# Altium integrated library NSC Amplifier.IntLib: 1615 symbols (part 26 of 44)
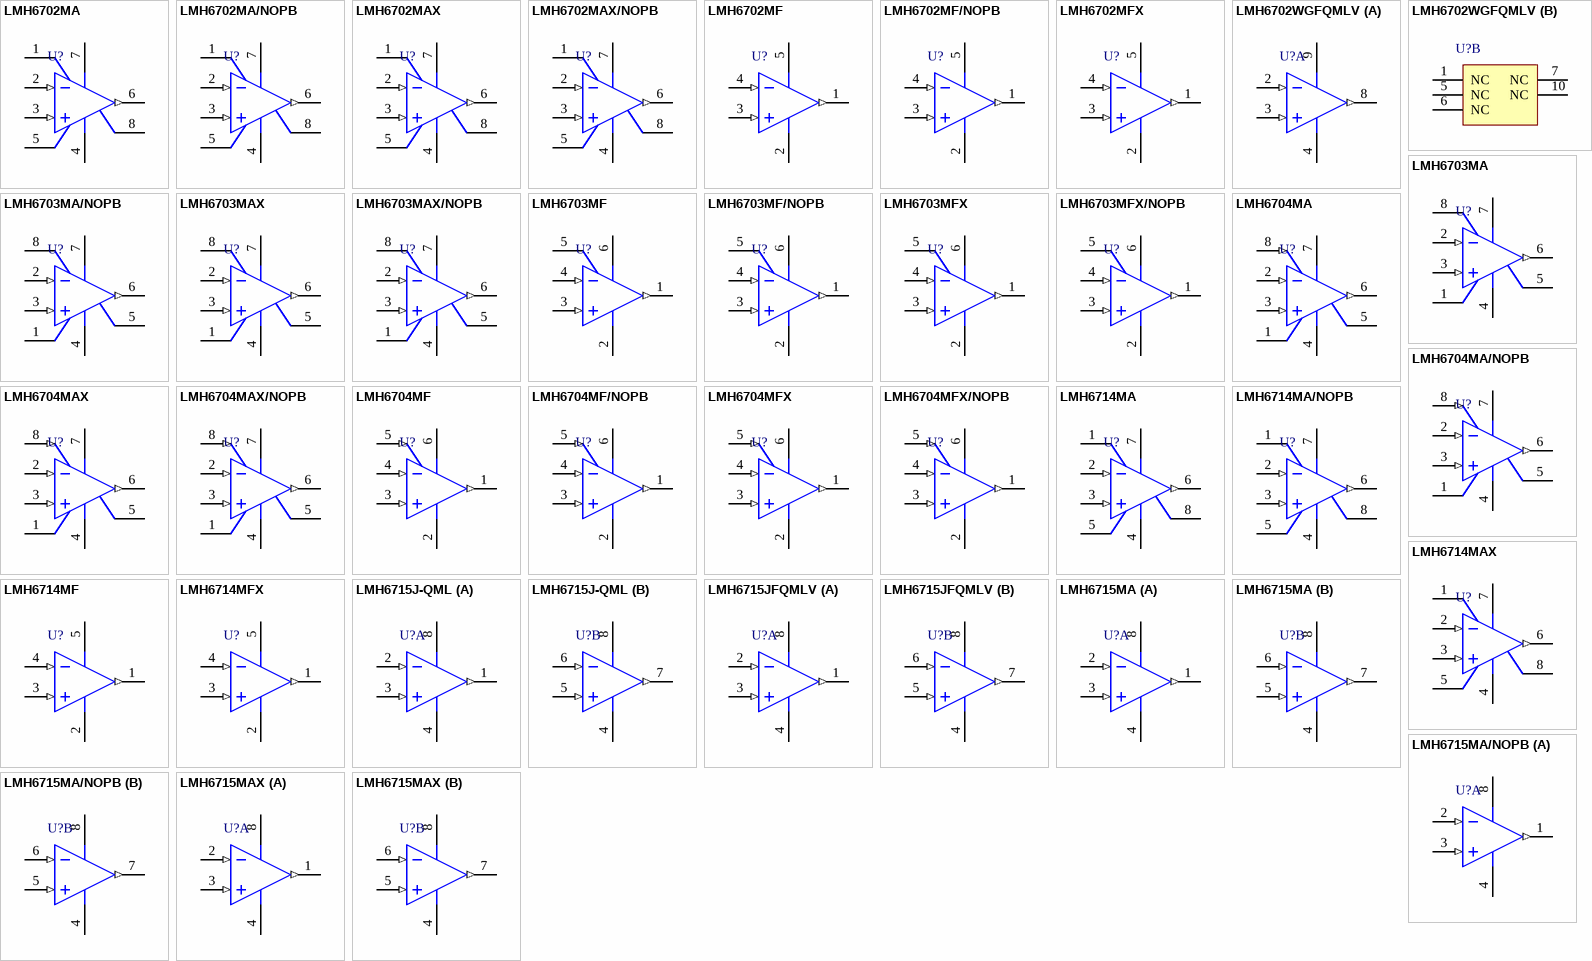
[diagram p107: symbols LMH6702MA to LMH6715MAX]

## LMH6704MA/NOPB
designator U?
650 MHz Selectable Gain Buffer with Disable, 8-pin Narrow SOIC, Pb-Free; PartNumber: LMH6704MA/NOPB; Manufacturer: National Semiconductor; PackageTopMarking: NSZXTT*LMH67*04MA; PowerWise: N; CompType: Amplifiers; Published: 1-Mar-2010; DatasheetVersion: Sep-2006; PackageVersion: revM, May-2009; PackageReference: M08A; Publisher: Altium Limited; PackageDescription: SOIC Narrow, 4.9 x 3.9 x 1.45mm, 8 Lead, 1.27mm Pitch; Supplier 1: Digi-Key; Supplier Part Number 1: LMH6704MA-ND; RoHS: Y; PinCount: 8; Code_JEDEC: MS-012-AA; Code_IPC: SOIC127P600-8; ComponentLink1Description: LMH6704 Datasheet; ComponentLink1URL: http://www.national.com/ds/LM/LMH6704.pdf; ComponentLink2Description: LMH6704 Web Page; ComponentLink2URL: http://www.national.com/pf/LM/LMH6704.html; ComponentLink3Description: M08A Package Page; ComponentLink3URL: http://www.national.com/packaging/folders/m08a.html
footprint M08A_N (SOIC, 8-Leads, Body 4.9x3.9mm, Pitch 1.27mm, IPC Medium Density)
footprint M08A_L (SOIC, 8-Leads, Body 4.9x3.9mm, Pitch 1.27mm, IPC High Density)
footprint M08A_M (SOIC, 8-Leads, Body 4.9x3.9mm, Pitch 1.27mm, IPC Low Density)
pins: 1 NC, 2 IN- (in), 3 IN+ (in), 4 VS- (power), 5 NC, 6 OUT (out), 7 VS+ (power), 8 ~{DIS} (in)

## LMH6704MAX
designator U?
650 MHz Selectable Gain Buffer with Disable, 8-pin Narrow SOIC; PartNumber: LMH6704MAX; Manufacturer: National Semiconductor; PackageTopMarking: NSZXTT*LMH67*04MA; PowerWise: N; CompType: Amplifiers; Published: 1-Mar-2010; DatasheetVersion: Sep-2006; PackageVersion: revM, May-2009; PackageReference: M08A; Publisher: Altium Limited; PackageDescription: SOIC Narrow, 4.9 x 3.9 x 1.45mm, 8 Lead, 1.27mm Pitch; RoHS: N; PinCount: 8; Code_JEDEC: MS-012-AA; Code_IPC: SOIC127P600-8; ComponentLink1Description: LMH6704 Datasheet; ComponentLink1URL: http://www.national.com/ds/LM/LMH6704.pdf; ComponentLink2Description: LMH6704 Web Page; ComponentLink2URL: http://www.national.com/pf/LM/LMH6704.html; ComponentLink3Description: M08A Package Page; ComponentLink3URL: http://www.national.com/packaging/folders/m08a.html
footprint M08A_N (SOIC, 8-Leads, Body 4.9x3.9mm, Pitch 1.27mm, IPC Medium Density)
footprint M08A_L (SOIC, 8-Leads, Body 4.9x3.9mm, Pitch 1.27mm, IPC High Density)
footprint M08A_M (SOIC, 8-Leads, Body 4.9x3.9mm, Pitch 1.27mm, IPC Low Density)
pins: 1 NC, 2 IN- (in), 3 IN+ (in), 4 VS- (power), 5 NC, 6 OUT (out), 7 VS+ (power), 8 ~{DIS} (in)

## LMH6704MAX/NOPB
designator U?
650 MHz Selectable Gain Buffer with Disable, 8-pin Narrow SOIC, Pb-Free; PartNumber: LMH6704MAX/NOPB; Manufacturer: National Semiconductor; PackageTopMarking: NSZXTT*LMH67*04MA; PowerWise: N; CompType: Amplifiers; Published: 1-Mar-2010; DatasheetVersion: Sep-2006; PackageVersion: revM, May-2009; PackageReference: M08A; Publisher: Altium Limited; PackageDescription: SOIC Narrow, 4.9 x 3.9 x 1.45mm, 8 Lead, 1.27mm Pitch; Supplier 1: Digi-Key; Supplier Part Number 1: LMH6704MAX-ND; RoHS: Y; PinCount: 8; Code_JEDEC: MS-012-AA; Code_IPC: SOIC127P600-8; ComponentLink1Description: LMH6704 Datasheet; ComponentLink1URL: http://www.national.com/ds/LM/LMH6704.pdf; ComponentLink2Description: LMH6704 Web Page; ComponentLink2URL: http://www.national.com/pf/LM/LMH6704.html; ComponentLink3Description: M08A Package Page; ComponentLink3URL: http://www.national.com/packaging/folders/m08a.html
footprint M08A_N (SOIC, 8-Leads, Body 4.9x3.9mm, Pitch 1.27mm, IPC Medium Density)
footprint M08A_L (SOIC, 8-Leads, Body 4.9x3.9mm, Pitch 1.27mm, IPC High Density)
footprint M08A_M (SOIC, 8-Leads, Body 4.9x3.9mm, Pitch 1.27mm, IPC Low Density)
pins: 1 NC, 2 IN- (in), 3 IN+ (in), 4 VS- (power), 5 NC, 6 OUT (out), 7 VS+ (power), 8 ~{DIS} (in)

## LMH6704MF
designator U?
650 MHz Selectable Gain Buffer with Disable, 6-pin SOT-23; PartNumber: LMH6704MF; Manufacturer: National Semiconductor; PackageTopMarking: B07A*XTT; PowerWise: N; CompType: Amplifiers; Published: 4-Dec-2008; DatasheetVersion: Sep-2006; PackageVersion: revC, Sep-2005; PackageReference: MF06A; Publisher: Altium Limited; PackageDescription: Molded SOT-23, .115 x .063 x .040in Body, 6 Lead, .0375in in Pitch; Supplier 1: Farnell; Supplier Part Number 1: 1008278; RoHS: N; PinCount: 6; Code_JEDEC: MO-178-AB; Code_IPC: SOT26A-6; ComponentLink1Description: LMH6704 Datasheet; ComponentLink1URL: http://www.national.com/ds/LM/LMH6704.pdf; ComponentLink2Description: LMH6704 Web Page; ComponentLink2URL: http://www.national.com/pf/LM/LMH6704.html; ComponentLink3Description: MF06A Package Page; ComponentLink3URL: http://www.national.com/packaging/folders/mf06a.html
footprint MF06A_N (SOT23, 6-Leads, Body 2.9x1.6mm, Pitch 0.95mm, Lead Span 2.8mm, IPC Medium Density)
footprint MF06A_L (SOT23, 6-Leads, Body 2.9x1.6mm, Pitch 0.95mm, Lead Span 2.8mm, IPC High Density)
footprint MF06A_M (SOT23, 6-Leads, Body 2.9x1.6mm, Pitch 0.95mm, Lead Span 2.8mm, IPC Low Density)
pins: 1 OUT (out), 2 VS- (power), 3 IN+ (in), 4 IN- (in), 5 ~{DIS} (in), 6 VS+ (power)

## LMH6704MF/NOPB
designator U?
650 MHz Selectable Gain Buffer with Disable, 6-pin SOT-23, Pb-Free; PartNumber: LMH6704MF/NOPB; Manufacturer: National Semiconductor; PackageTopMarking: B07A*XTT; PowerWise: N; CompType: Amplifiers; Published: 1-Mar-2010; DatasheetVersion: Sep-2006; PackageVersion: revC, Sep-2005; PackageReference: MF06A; Publisher: Altium Limited; PackageDescription: Molded SOT-23, .115 x .063 x .040in Body, 6 Lead, .0375in in Pitch; Supplier 1: Digi-Key; Supplier Part Number 1: LMH6704MFTR-ND; Supplier 2: Digi-Key; Supplier Part Number 2: LMH6704MFCT-ND; Supplier 3: Digi-Key; Supplier Part Number 3: LMH6704MFDKR-ND; RoHS: Y; PinCount: 6; Code_JEDEC: MO-178-AB; Code_IPC: SOT26A-6; ComponentLink1Description: LMH6704 Datasheet; ComponentLink1URL: http://www.national.com/ds/LM/LMH6704.pdf; ComponentLink2Description: LMH6704 Web Page; ComponentLink2URL: http://www.national.com/pf/LM/LMH6704.html; ComponentLink3Description: MF06A Package Page; ComponentLink3URL: http://www.national.com/packaging/folders/mf06a.html
footprint MF06A_N (SOT23, 6-Leads, Body 2.9x1.6mm, Pitch 0.95mm, Lead Span 2.8mm, IPC Medium Density)
footprint MF06A_L (SOT23, 6-Leads, Body 2.9x1.6mm, Pitch 0.95mm, Lead Span 2.8mm, IPC High Density)
footprint MF06A_M (SOT23, 6-Leads, Body 2.9x1.6mm, Pitch 0.95mm, Lead Span 2.8mm, IPC Low Density)
pins: 1 OUT (out), 2 VS- (power), 3 IN+ (in), 4 IN- (in), 5 ~{DIS} (in), 6 VS+ (power)

## LMH6704MFX
designator U?
650 MHz Selectable Gain Buffer with Disable, 6-pin SOT-23; PartNumber: LMH6704MFX; Manufacturer: National Semiconductor; PackageTopMarking: B07A*XTT; PowerWise: N; CompType: Amplifiers; Published: 1-Mar-2010; DatasheetVersion: Sep-2006; PackageVersion: revC, Sep-2005; PackageReference: MF06A; Publisher: Altium Limited; PackageDescription: Molded SOT-23, .115 x .063 x .040in Body, 6 Lead, .0375in in Pitch; RoHS: N; PinCount: 6; Code_JEDEC: MO-178-AB; Code_IPC: SOT26A-6; ComponentLink1Description: LMH6704 Datasheet; ComponentLink1URL: http://www.national.com/ds/LM/LMH6704.pdf; ComponentLink2Description: LMH6704 Web Page; ComponentLink2URL: http://www.national.com/pf/LM/LMH6704.html; ComponentLink3Description: MF06A Package Page; ComponentLink3URL: http://www.national.com/packaging/folders/mf06a.html
footprint MF06A_N (SOT23, 6-Leads, Body 2.9x1.6mm, Pitch 0.95mm, Lead Span 2.8mm, IPC Medium Density)
footprint MF06A_L (SOT23, 6-Leads, Body 2.9x1.6mm, Pitch 0.95mm, Lead Span 2.8mm, IPC High Density)
footprint MF06A_M (SOT23, 6-Leads, Body 2.9x1.6mm, Pitch 0.95mm, Lead Span 2.8mm, IPC Low Density)
pins: 1 OUT (out), 2 VS- (power), 3 IN+ (in), 4 IN- (in), 5 ~{DIS} (in), 6 VS+ (power)

## LMH6704MFX/NOPB
designator U?
650 MHz Selectable Gain Buffer with Disable, 6-pin SOT-23, Pb-Free; PartNumber: LMH6704MFX/NOPB; Manufacturer: National Semiconductor; PackageTopMarking: B07A*XTT; PowerWise: N; CompType: Amplifiers; Published: 1-Mar-2010; DatasheetVersion: Sep-2006; PackageVersion: revC, Sep-2005; PackageReference: MF06A; Publisher: Altium Limited; PackageDescription: Molded SOT-23, .115 x .063 x .040in Body, 6 Lead, .0375in in Pitch; Supplier 1: Digi-Key; Supplier Part Number 1: LMH6704MFX-ND; RoHS: Y; PinCount: 6; Code_JEDEC: MO-178-AB; Code_IPC: SOT26A-6; ComponentLink1Description: LMH6704 Datasheet; ComponentLink1URL: http://www.national.com/ds/LM/LMH6704.pdf; ComponentLink2Description: LMH6704 Web Page; ComponentLink2URL: http://www.national.com/pf/LM/LMH6704.html; ComponentLink3Description: MF06A Package Page; ComponentLink3URL: http://www.national.com/packaging/folders/mf06a.html
footprint MF06A_N (SOT23, 6-Leads, Body 2.9x1.6mm, Pitch 0.95mm, Lead Span 2.8mm, IPC Medium Density)
footprint MF06A_L (SOT23, 6-Leads, Body 2.9x1.6mm, Pitch 0.95mm, Lead Span 2.8mm, IPC High Density)
footprint MF06A_M (SOT23, 6-Leads, Body 2.9x1.6mm, Pitch 0.95mm, Lead Span 2.8mm, IPC Low Density)
pins: 1 OUT (out), 2 VS- (power), 3 IN+ (in), 4 IN- (in), 5 ~{DIS} (in), 6 VS+ (power)

## LMH6714MA
designator U?
Single Wideband Video Op Amp, 8-pin Narrow SOIC; PartNumber: LMH6714MA; Manufacturer: National Semiconductor; PackageTopMarking: NSZXTT*LMH67*14MA; PowerWise: Y; CompType: Amplifiers; Published: 4-Dec-2008; LatestRevisionDate: 13-Jan-2009; LatestRevisionNote: Sim Model Added.; DatasheetVersion: Oct-2009; PackageVersion: revM, May-2009; PackageReference: M08A; Publisher: Altium Limited; PackageDescription: SOIC Narrow, 4.9 x 3.9 x 1.45mm, 8 Lead, 1.27mm Pitch; Supplier 1: Farnell; Supplier Part Number 1: 8180857; RoHS: N; PinCount: 8; Code_JEDEC: MS-012-AA; Code_IPC: SOIC127P600-8; ComponentLink1Description: LMH6714 Datasheet; ComponentLink1URL: http://www.national.com/ds/LM/LMH6714.pdf; ComponentLink2Description: LMH6714 Web Page; ComponentLink2URL: http://www.national.com/pf/LM/LMH6714.html; ComponentLink3Description: M08A Package Page; ComponentLink3URL: http://www.national.com/packaging/folders/m08a.html
footprint M08A_N (SOIC, 8-Leads, Body 4.9x3.9mm, Pitch 1.27mm, IPC Medium Density)
footprint M08A_L (SOIC, 8-Leads, Body 4.9x3.9mm, Pitch 1.27mm, IPC High Density)
footprint M08A_M (SOIC, 8-Leads, Body 4.9x3.9mm, Pitch 1.27mm, IPC Low Density)
simulation model LMH6714 (SUBCKT)
pins: 1 NC, 2 IN- (in), 3 IN+ (in), 4 V- (power), 5 NC, 6 OUT (out), 7 V+ (power), 8 NC

## LMH6714MA/NOPB
designator U?
Single Wideband Video Op Amp, 8-pin Narrow SOIC, Pb-Free; PartNumber: LMH6714MA/NOPB; Manufacturer: National Semiconductor; PackageTopMarking: NSZXTT*LMH67*14MA; PowerWise: Y; CompType: Amplifiers; Published: 1-Mar-2010; DatasheetVersion: Oct-2009; PackageVersion: revM, May-2009; PackageReference: M08A; Publisher: Altium Limited; PackageDescription: SOIC Narrow, 4.9 x 3.9 x 1.45mm, 8 Lead, 1.27mm Pitch; Supplier 1: Digi-Key; Supplier Part Number 1: LMH6714MA-ND; Supplier 2: Farnell; Supplier Part Number 2: 1496043; RoHS: Y; PinCount: 8; Code_JEDEC: MS-012-AA; Code_IPC: SOIC127P600-8; ComponentLink1Description: LMH6714 Datasheet; ComponentLink1URL: http://www.national.com/ds/LM/LMH6714.pdf; ComponentLink2Description: LMH6714 Web Page; ComponentLink2URL: http://www.national.com/pf/LM/LMH6714.html; ComponentLink3Description: M08A Package Page; ComponentLink3URL: http://www.national.com/packaging/folders/m08a.html
footprint M08A_N (SOIC, 8-Leads, Body 4.9x3.9mm, Pitch 1.27mm, IPC Medium Density)
footprint M08A_L (SOIC, 8-Leads, Body 4.9x3.9mm, Pitch 1.27mm, IPC High Density)
footprint M08A_M (SOIC, 8-Leads, Body 4.9x3.9mm, Pitch 1.27mm, IPC Low Density)
simulation model LMH6714 (SUBCKT)
pins: 1 NC, 2 IN- (in), 3 IN+ (in), 4 V- (power), 5 NC, 6 OUT (out), 7 V+ (power), 8 NC

## LMH6714MAX
designator U?
Single Wideband Video Op Amp, 8-pin Narrow SOIC; PartNumber: LMH6714MAX; Manufacturer: National Semiconductor; PackageTopMarking: NSZXTT*LMH67*14MA; PowerWise: Y; CompType: Amplifiers; Published: 1-Mar-2010; DatasheetVersion: Oct-2009; PackageVersion: revM, May-2009; PackageReference: M08A; Publisher: Altium Limited; PackageDescription: SOIC Narrow, 4.9 x 3.9 x 1.45mm, 8 Lead, 1.27mm Pitch; RoHS: N; PinCount: 8; Code_JEDEC: MS-012-AA; Code_IPC: SOIC127P600-8; ComponentLink1Description: LMH6714 Datasheet; ComponentLink1URL: http://www.national.com/ds/LM/LMH6714.pdf; ComponentLink2Description: LMH6714 Web Page; ComponentLink2URL: http://www.national.com/pf/LM/LMH6714.html; ComponentLink3Description: M08A Package Page; ComponentLink3URL: http://www.national.com/packaging/folders/m08a.html
footprint M08A_N (SOIC, 8-Leads, Body 4.9x3.9mm, Pitch 1.27mm, IPC Medium Density)
footprint M08A_L (SOIC, 8-Leads, Body 4.9x3.9mm, Pitch 1.27mm, IPC High Density)
footprint M08A_M (SOIC, 8-Leads, Body 4.9x3.9mm, Pitch 1.27mm, IPC Low Density)
simulation model LMH6714 (SUBCKT)
pins: 1 NC, 2 IN- (in), 3 IN+ (in), 4 V- (power), 5 NC, 6 OUT (out), 7 V+ (power), 8 NC

## LMH6714MF
designator U?
Single Wideband Video Operational Amplifier, 5-pin SOT-23; PartNumber: LMH6714MF; Manufacturer: National Semiconductor; PackageTopMarking: A95A*XTT; PowerWise: Y; CompType: Amplifiers; Published: 4-Dec-2008; LatestRevisionDate: 13-Jan-2009; LatestRevisionNote: Sim Model Added.; DatasheetVersion: Oct-2009; PackageVersion: revD, Aug-2008; PackageReference: MF05A; Publisher: Altium Limited; PackageDescription: Molded SOT-23, .115 x .063 x .040 in Body, 5 Lead, .0375 in Pitch; Supplier 1: Farnell; Supplier Part Number 1: 8180865; RoHS: N; PinCount: 5; ComponentLink1Description: LMH6714 Datasheet; ComponentLink1URL: http://www.national.com/ds/LM/LMH6714.pdf; ComponentLink2Description: LMH6714 Web Page; ComponentLink2URL: http://www.national.com/pf/LM/LMH6714.html; ComponentLink3Description: MF05A Package Page; ComponentLink3URL: http://www.national.com/packaging/folders/mf05a.html
footprint MF05A_N (SOT23, 5-Leads, Body 2.9x1.6mm, Pitch 0.95mm, Lead Span 2.8mm, IPC Medium Density)
footprint MF05A_L (SOT23, 5-Leads, Body 2.9x1.6mm, Pitch 0.95mm, Lead Span 2.8mm, IPC High Density)
footprint MF05A_M (SOT23, 5-Leads, Body 2.9x1.6mm, Pitch 0.95mm, Lead Span 2.8mm, IPC Low Density)
simulation model LMH6714 (SUBCKT)
pins: 1 OUT (out), 2 V- (power), 3 IN+ (in), 4 IN- (in), 5 V+ (power)

## LMH6714MFX
designator U?
Single Wideband Video Op Amp, 5-pin SOT-23; PartNumber: LMH6714MFX; Manufacturer: National Semiconductor; PackageTopMarking: A95A*XTT; PowerWise: Y; CompType: Amplifiers; Published: 1-Mar-2010; DatasheetVersion: Oct-2009; PackageVersion: revD, Aug-2008; PackageReference: MF05A; Publisher: Altium Limited; PackageDescription: Molded SOT-23, .115 x .063 x .040 in Body, 5 Lead, .0375 in Pitch; RoHS: N; PinCount: 5; ComponentLink1Description: LMH6714 Datasheet; ComponentLink1URL: http://www.national.com/ds/LM/LMH6714.pdf; ComponentLink2Description: LMH6714 Web Page; ComponentLink2URL: http://www.national.com/pf/LM/LMH6714.html; ComponentLink3Description: MF05A Package Page; ComponentLink3URL: http://www.national.com/packaging/folders/mf05a.html
footprint MF05A_N (SOT23, 5-Leads, Body 2.9x1.6mm, Pitch 0.95mm, Lead Span 2.8mm, IPC Medium Density)
footprint MF05A_L (SOT23, 5-Leads, Body 2.9x1.6mm, Pitch 0.95mm, Lead Span 2.8mm, IPC High Density)
footprint MF05A_M (SOT23, 5-Leads, Body 2.9x1.6mm, Pitch 0.95mm, Lead Span 2.8mm, IPC Low Density)
simulation model LMH6714 (SUBCKT)
pins: 1 OUT (out), 2 V- (power), 3 IN+ (in), 4 IN- (in), 5 V+ (power)

## LMH6715J-QML
designator U?
Dual Wideband Video Op Amp, 8-pin CerDIP; PartNumber: LMH6715J-QML; Manufacturer: National Semiconductor; PackageTopMarking: NSZSSXXYYA*LMH6715J-*QML 5962-*0254701QPA Q; PowerWise: N; CompType: Amplifiers; High-Reliability: Y; Published: 4-Dec-2008; LatestRevisionDate: 13-Jan-2009; LatestRevisionNote: Sim Model Added.; DatasheetVersion: Jan-2003; PackageVersion: revM, Jul-2002; PackageReference: J08A; Publisher: Altium Limited; PackageDescription: Cerdip, .400 x .310in Body, 8 Lead, .300in Centers, .100in Pitch; RoHS: N; PinCount: 8; ComponentLink1Description: LMH6715 Datasheet; ComponentLink1URL: http://www.national.com/ds/LM/LMH6715.pdf; ComponentLink2Description: LMH6715 Web Page; ComponentLink2URL: http://www.national.com/pf/LM/LMH6715.html; ComponentLink3Description: J08A Package Page; ComponentLink3URL: http://www.national.com/packaging/folders/j08a.html
footprint J08A (DIP, 8-Leads, Row Spacing 7.62mm, Pitch 2.54mm, Body 9.78x6.73mm)
simulation model LMH6715 (SUBCKT)
pins on every part: 4 V- (power), 8 V+ (power)
part A pins: 1 OUT1 (out), 2 IN1- (in), 3 IN1+ (in)
part B pins: 5 IN2+ (in), 6 IN2- (in), 7 OUT2 (out)

## LMH6715JFQMLV
designator U?
Dual Wideband Video Op Amp, 8-pin CerDIP; PartNumber: LMH6715JFQMLV; Manufacturer: National Semiconductor; PackageTopMarking: NSZSSXXYYA*LMH6715JF*QV Q 5962F*0254701VPA; PowerWise: N; CompType: Amplifiers; High-Reliability: Y; Published: 4-Dec-2008; LatestRevisionDate: 13-Jan-2009; LatestRevisionNote: Sim Model Added.; DatasheetVersion: Jan-2003; PackageVersion: revM, Jul-2002; PackageReference: J08A; Publisher: Altium Limited; PackageDescription: Cerdip, .400 x .310in Body, 8 Lead, .300in Centers, .100in Pitch; RoHS: N; PinCount: 8; ComponentLink1Description: LMH6715 Datasheet; ComponentLink1URL: http://www.national.com/ds/LM/LMH6715.pdf; ComponentLink2Description: LMH6715 Web Page; ComponentLink2URL: http://www.national.com/pf/LM/LMH6715.html; ComponentLink3Description: J08A Package Page; ComponentLink3URL: http://www.national.com/packaging/folders/j08a.html
footprint J08A (DIP, 8-Leads, Row Spacing 7.62mm, Pitch 2.54mm, Body 9.78x6.73mm)
simulation model LMH6715 (SUBCKT)
pins on every part: 4 V- (power), 8 V+ (power)
part A pins: 1 OUT1 (out), 2 IN1- (in), 3 IN1+ (in)
part B pins: 5 IN2+ (in), 6 IN2- (in), 7 OUT2 (out)

## LMH6715MA
designator U?
Dual Wideband Video Op Amp, 8-pin Narrow SOIC; PartNumber: LMH6715MA; Manufacturer: National Semiconductor; PackageTopMarking: NSZXTT*LMH67*15MA; PowerWise: N; CompType: Amplifiers; Published: 4-Dec-2008; LatestRevisionDate: 13-Jan-2009; LatestRevisionNote: Sim Model Added.; DatasheetVersion: Jan-2003; PackageVersion: revM, May-2009; PackageReference: M08A; Publisher: Altium Limited; PackageDescription: SOIC Narrow, 4.9 x 3.9 x 1.45mm, 8 Lead, 1.27mm Pitch; Supplier 1: Farnell; Supplier Part Number 1: 4313641; RoHS: N; PinCount: 8; Code_JEDEC: MS-012-AA; Code_IPC: SOIC127P600-8; ComponentLink1Description: LMH6715 Datasheet; ComponentLink1URL: http://www.national.com/ds/LM/LMH6715.pdf; ComponentLink2Description: LMH6715 Web Page; ComponentLink2URL: http://www.national.com/pf/LM/LMH6715.html; ComponentLink3Description: M08A Package Page; ComponentLink3URL: http://www.national.com/packaging/folders/m08a.html
footprint M08A_N (SOIC, 8-Leads, Body 4.9x3.9mm, Pitch 1.27mm, IPC Medium Density)
footprint M08A_L (SOIC, 8-Leads, Body 4.9x3.9mm, Pitch 1.27mm, IPC High Density)
footprint M08A_M (SOIC, 8-Leads, Body 4.9x3.9mm, Pitch 1.27mm, IPC Low Density)
simulation model LMH6715 (SUBCKT)
pins on every part: 4 V- (power), 8 V+ (power)
part A pins: 1 OUT1 (out), 2 IN1- (in), 3 IN1+ (in)
part B pins: 5 IN2+ (in), 6 IN2- (in), 7 OUT2 (out)

## LMH6715MA/NOPB
designator U?
Dual Wideband Video Op Amp, 8-pin Narrow SOIC, Pb-Free; PartNumber: LMH6715MA/NOPB; Manufacturer: National Semiconductor; PackageTopMarking: NSZXTT*LMH67*15MA; PowerWise: N; CompType: Amplifiers; Published: 1-Mar-2010; DatasheetVersion: Jan-2003; PackageVersion: revM, May-2009; PackageReference: M08A; Publisher: Altium Limited; PackageDescription: SOIC Narrow, 4.9 x 3.9 x 1.45mm, 8 Lead, 1.27mm Pitch; Supplier 1: Digi-Key; Supplier Part Number 1: LMH6715MA-ND; Supplier 2: Farnell; Supplier Part Number 2: 1564715; RoHS: Y; PinCount: 8; Code_JEDEC: MS-012-AA; Code_IPC: SOIC127P600-8; ComponentLink1Description: LMH6715 Datasheet; ComponentLink1URL: http://www.national.com/ds/LM/LMH6715.pdf; ComponentLink2Description: LMH6715 Web Page; ComponentLink2URL: http://www.national.com/pf/LM/LMH6715.html; ComponentLink3Description: M08A Package Page; ComponentLink3URL: http://www.national.com/packaging/folders/m08a.html
footprint M08A_N (SOIC, 8-Leads, Body 4.9x3.9mm, Pitch 1.27mm, IPC Medium Density)
footprint M08A_L (SOIC, 8-Leads, Body 4.9x3.9mm, Pitch 1.27mm, IPC High Density)
footprint M08A_M (SOIC, 8-Leads, Body 4.9x3.9mm, Pitch 1.27mm, IPC Low Density)
simulation model LMH6715 (SUBCKT)
pins on every part: 4 V- (power), 8 V+ (power)
part A pins: 1 OUT1 (out), 2 IN1- (in), 3 IN1+ (in)
part B pins: 5 IN2+ (in), 6 IN2- (in), 7 OUT2 (out)

## LMH6715MAX
designator U?
Dual Wideband Video Op Amp, 8-pin Narrow SOIC; PartNumber: LMH6715MAX; Manufacturer: National Semiconductor; PackageTopMarking: NSZXTT*LMH67*15MA; PowerWise: N; CompType: Amplifiers; Published: 1-Mar-2010; DatasheetVersion: Jan-2003; PackageVersion: revM, May-2009; PackageReference: M08A; Publisher: Altium Limited; PackageDescription: SOIC Narrow, 4.9 x 3.9 x 1.45mm, 8 Lead, 1.27mm Pitch; RoHS: N; PinCount: 8; Code_JEDEC: MS-012-AA; Code_IPC: SOIC127P600-8; ComponentLink1Description: LMH6715 Datasheet; ComponentLink1URL: http://www.national.com/ds/LM/LMH6715.pdf; ComponentLink2Description: LMH6715 Web Page; ComponentLink2URL: http://www.national.com/pf/LM/LMH6715.html; ComponentLink3Description: M08A Package Page; ComponentLink3URL: http://www.national.com/packaging/folders/m08a.html
footprint M08A_N (SOIC, 8-Leads, Body 4.9x3.9mm, Pitch 1.27mm, IPC Medium Density)
footprint M08A_L (SOIC, 8-Leads, Body 4.9x3.9mm, Pitch 1.27mm, IPC High Density)
footprint M08A_M (SOIC, 8-Leads, Body 4.9x3.9mm, Pitch 1.27mm, IPC Low Density)
simulation model LMH6715 (SUBCKT)
pins on every part: 4 V- (power), 8 V+ (power)
part A pins: 1 OUT1 (out), 2 IN1- (in), 3 IN1+ (in)
part B pins: 5 IN2+ (in), 6 IN2- (in), 7 OUT2 (out)

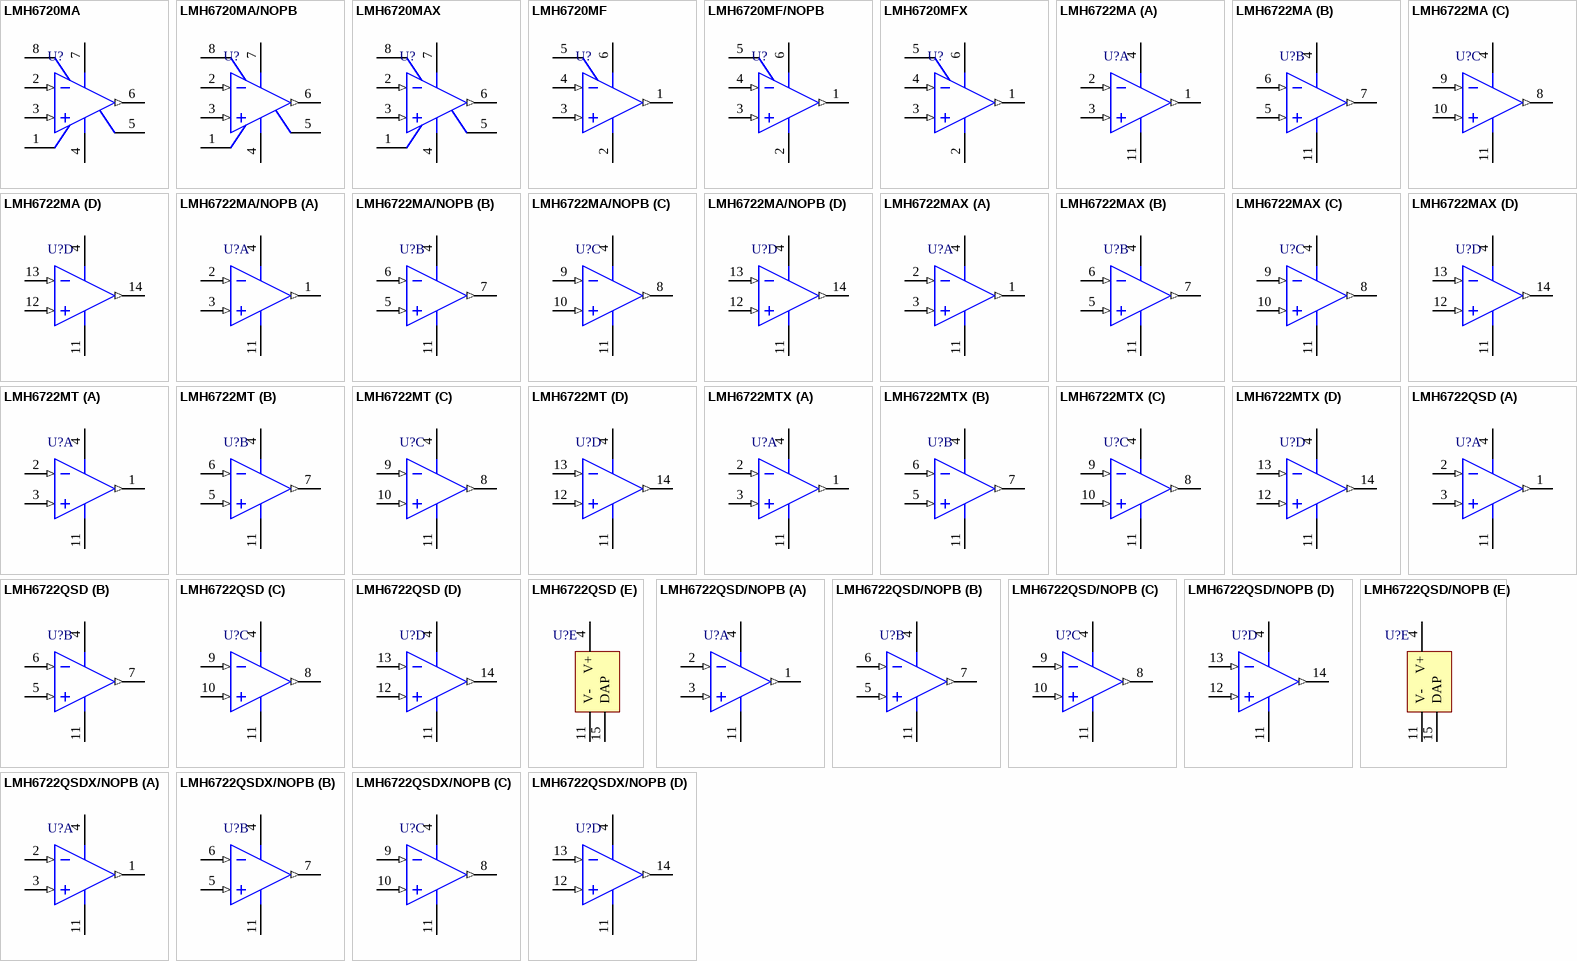
[diagram p51: symbols LMH6720MA to LMH6722QSDX/NOPB]

## LMH6720MA
designator U?
Single Wideband Video Op Amp with Shutdown, 8-pin Narrow SOIC; PartNumber: LMH6720MA; Manufacturer: National Semiconductor; PackageTopMarking: NSZXTT*LMH67*20MA; PowerWise: Y; CompType: Amplifiers; Published: 4-Dec-2008; LatestRevisionDate: 13-Jan-2009; LatestRevisionNote: Sim Model Added.; DatasheetVersion: Oct-2008; PackageVersion: revM, May-2009; PackageReference: M08A; Publisher: Altium Limited; PackageDescription: SOIC Narrow, 4.9 x 3.9 x 1.45mm, 8 Lead, 1.27mm Pitch; Supplier 1: Digi-Key; Supplier Part Number 1: LMH6720MA-ND; Supplier 2: Farnell; Supplier Part Number 2: 8180873; RoHS: N; PinCount: 8; Code_JEDEC: MS-012-AA; Code_IPC: SOIC127P600-8; ComponentLink1Description: LMH6720 Datasheet; ComponentLink1URL: http://www.national.com/ds/LM/LMH6720.pdf; ComponentLink2Description: LMH6720 Web Page; ComponentLink2URL: http://www.national.com/pf/LM/LMH6720.html; ComponentLink3Description: M08A Package Page; ComponentLink3URL: http://www.national.com/packaging/folders/m08a.html
footprint M08A_N (SOIC, 8-Leads, Body 4.9x3.9mm, Pitch 1.27mm, IPC Medium Density)
footprint M08A_L (SOIC, 8-Leads, Body 4.9x3.9mm, Pitch 1.27mm, IPC High Density)
footprint M08A_M (SOIC, 8-Leads, Body 4.9x3.9mm, Pitch 1.27mm, IPC Low Density)
simulation model LMH6720 (SUBCKT)
pins: 1 NC, 2 IN- (in), 3 IN+ (in), 4 V- (power), 5 NC, 6 OUT (out), 7 V+ (power), 8 ~{SD}

## LMH6720MA/NOPB
designator U?
Single Wideband Video Op Amp with Shutdown, 8-pin Narrow SOIC, Pb-Free; PartNumber: LMH6720MA/NOPB; Manufacturer: National Semiconductor; PackageTopMarking: NSZXTT*LMH67*20MA; PowerWise: Y; CompType: Amplifiers; Published: 1-Mar-2010; DatasheetVersion: Oct-2008; PackageVersion: revM, May-2009; PackageReference: M08A; Publisher: Altium Limited; PackageDescription: SOIC Narrow, 4.9 x 3.9 x 1.45mm, 8 Lead, 1.27mm Pitch; Supplier 1: Digi-Key; Supplier Part Number 1: LMH6720MA/NOPB-ND; Supplier 2: Farnell; Supplier Part Number 2: 1693964; RoHS: Y; PinCount: 8; Code_JEDEC: MS-012-AA; Code_IPC: SOIC127P600-8; ComponentLink1Description: LMH6720 Datasheet; ComponentLink1URL: http://www.national.com/ds/LM/LMH6720.pdf; ComponentLink2Description: LMH6720 Web Page; ComponentLink2URL: http://www.national.com/pf/LM/LMH6720.html; ComponentLink3Description: M08A Package Page; ComponentLink3URL: http://www.national.com/packaging/folders/m08a.html
footprint M08A_N (SOIC, 8-Leads, Body 4.9x3.9mm, Pitch 1.27mm, IPC Medium Density)
footprint M08A_L (SOIC, 8-Leads, Body 4.9x3.9mm, Pitch 1.27mm, IPC High Density)
footprint M08A_M (SOIC, 8-Leads, Body 4.9x3.9mm, Pitch 1.27mm, IPC Low Density)
simulation model LMH6720 (SUBCKT)
pins: 1 NC, 2 IN- (in), 3 IN+ (in), 4 V- (power), 5 NC, 6 OUT (out), 7 V+ (power), 8 ~{SD}

## LMH6720MAX
designator U?
Single Wideband Video Op Amp with Shutdown, 8-pin Narrow SOIC; PartNumber: LMH6720MAX; Manufacturer: National Semiconductor; PackageTopMarking: NSZXTT*LMH67*20MA; PowerWise: Y; CompType: Amplifiers; Published: 1-Mar-2010; DatasheetVersion: Oct-2008; PackageVersion: revM, May-2009; PackageReference: M08A; Publisher: Altium Limited; PackageDescription: SOIC Narrow, 4.9 x 3.9 x 1.45mm, 8 Lead, 1.27mm Pitch; Supplier 1: Digi-Key; Supplier Part Number 1: LMH6720MAXTR-ND; Supplier 2: Digi-Key; Supplier Part Number 2: LMH6720MAXCT-ND; RoHS: N; PinCount: 8; Code_JEDEC: MS-012-AA; Code_IPC: SOIC127P600-8; ComponentLink1Description: LMH6720 Datasheet; ComponentLink1URL: http://www.national.com/ds/LM/LMH6720.pdf; ComponentLink2Description: LMH6720 Web Page; ComponentLink2URL: http://www.national.com/pf/LM/LMH6720.html; ComponentLink3Description: M08A Package Page; ComponentLink3URL: http://www.national.com/packaging/folders/m08a.html
footprint M08A_N (SOIC, 8-Leads, Body 4.9x3.9mm, Pitch 1.27mm, IPC Medium Density)
footprint M08A_L (SOIC, 8-Leads, Body 4.9x3.9mm, Pitch 1.27mm, IPC High Density)
footprint M08A_M (SOIC, 8-Leads, Body 4.9x3.9mm, Pitch 1.27mm, IPC Low Density)
simulation model LMH6720 (SUBCKT)
pins: 1 NC, 2 IN- (in), 3 IN+ (in), 4 V- (power), 5 NC, 6 OUT (out), 7 V+ (power), 8 ~{SD}

## LMH6720MF
designator U?
Single Wideband Video Op Amp with Shutdown, 6-pin SOT-23; PartNumber: LMH6720MF; Manufacturer: National Semiconductor; PackageTopMarking: A96A*XTT; PowerWise: Y; CompType: Amplifiers; Published: 4-Dec-2008; LatestRevisionDate: 13-Jan-2009; LatestRevisionNote: Sim Model Added.; DatasheetVersion: Oct-2008; PackageVersion: revC, Sep-2005; PackageReference: MF06A; Publisher: Altium Limited; PackageDescription: Molded SOT-23, .115 x .063 x .040in Body, 6 Lead, .0375in in Pitch; Supplier 1: Farnell; Supplier Part Number 1: 8180881; RoHS: N; PinCount: 6; Code_JEDEC: MO-178-AB; Code_IPC: SOT26A-6; ComponentLink1Description: LMH6720 Datasheet; ComponentLink1URL: http://www.national.com/ds/LM/LMH6720.pdf; ComponentLink2Description: LMH6720 Web Page; ComponentLink2URL: http://www.national.com/pf/LM/LMH6720.html; ComponentLink3Description: MF06A Package Page; ComponentLink3URL: http://www.national.com/packaging/folders/mf06a.html
footprint MF06A_N (SOT23, 6-Leads, Body 2.9x1.6mm, Pitch 0.95mm, Lead Span 2.8mm, IPC Medium Density)
footprint MF06A_L (SOT23, 6-Leads, Body 2.9x1.6mm, Pitch 0.95mm, Lead Span 2.8mm, IPC High Density)
footprint MF06A_M (SOT23, 6-Leads, Body 2.9x1.6mm, Pitch 0.95mm, Lead Span 2.8mm, IPC Low Density)
simulation model LMH6720 (SUBCKT)
pins: 1 OUT (out), 2 V- (power), 3 IN+ (in), 4 IN- (in), 5 ~{SD}, 6 V+ (power)

## LMH6720MF/NOPB
designator U?
Single Wideband Video Op Amp with Shutdown, 6-pin SOT-23, Pb-Free; PartNumber: LMH6720MF/NOPB; Manufacturer: National Semiconductor; PackageTopMarking: A96A*XTT; PowerWise: Y; CompType: Amplifiers; Published: 1-Mar-2010; DatasheetVersion: Oct-2008; PackageVersion: revC, Sep-2005; PackageReference: MF06A; Publisher: Altium Limited; PackageDescription: Molded SOT-23, .115 x .063 x .040in Body, 6 Lead, .0375in in Pitch; Supplier 1: Digi-Key; Supplier Part Number 1: LMH6720MFTR-ND; Supplier 2: Digi-Key; Supplier Part Number 2: LMH6720MFCT-ND; Supplier 3: Digi-Key; Supplier Part Number 3: LMH6720MFDKR-ND; Supplier 4: Farnell; Supplier Part Number 4: 1559334; RoHS: Y; PinCount: 6; Code_JEDEC: MO-178-AB; Code_IPC: SOT26A-6; ComponentLink1Description: LMH6720 Datasheet; ComponentLink1URL: http://www.national.com/ds/LM/LMH6720.pdf; ComponentLink2Description: LMH6720 Web Page; ComponentLink2URL: http://www.national.com/pf/LM/LMH6720.html; ComponentLink3Description: MF06A Package Page; ComponentLink3URL: http://www.national.com/packaging/folders/mf06a.html
footprint MF06A_N (SOT23, 6-Leads, Body 2.9x1.6mm, Pitch 0.95mm, Lead Span 2.8mm, IPC Medium Density)
footprint MF06A_L (SOT23, 6-Leads, Body 2.9x1.6mm, Pitch 0.95mm, Lead Span 2.8mm, IPC High Density)
footprint MF06A_M (SOT23, 6-Leads, Body 2.9x1.6mm, Pitch 0.95mm, Lead Span 2.8mm, IPC Low Density)
simulation model LMH6720 (SUBCKT)
pins: 1 OUT (out), 2 V- (power), 3 IN+ (in), 4 IN- (in), 5 ~{SD}, 6 V+ (power)

## LMH6720MFX
designator U?
Single Wideband Video Op Amp with Shutdown, 6-pin SOT-23; PartNumber: LMH6720MFX; Manufacturer: National Semiconductor; PackageTopMarking: A96A*XTT; PowerWise: Y; CompType: Amplifiers; Published: 1-Mar-2010; DatasheetVersion: Oct-2008; PackageVersion: revC, Sep-2005; PackageReference: MF06A; Publisher: Altium Limited; PackageDescription: Molded SOT-23, .115 x .063 x .040in Body, 6 Lead, .0375in in Pitch; RoHS: N; PinCount: 6; Code_JEDEC: MO-178-AB; Code_IPC: SOT26A-6; ComponentLink1Description: LMH6720 Datasheet; ComponentLink1URL: http://www.national.com/ds/LM/LMH6720.pdf; ComponentLink2Description: LMH6720 Web Page; ComponentLink2URL: http://www.national.com/pf/LM/LMH6720.html; ComponentLink3Description: MF06A Package Page; ComponentLink3URL: http://www.national.com/packaging/folders/mf06a.html
footprint MF06A_N (SOT23, 6-Leads, Body 2.9x1.6mm, Pitch 0.95mm, Lead Span 2.8mm, IPC Medium Density)
footprint MF06A_L (SOT23, 6-Leads, Body 2.9x1.6mm, Pitch 0.95mm, Lead Span 2.8mm, IPC High Density)
footprint MF06A_M (SOT23, 6-Leads, Body 2.9x1.6mm, Pitch 0.95mm, Lead Span 2.8mm, IPC Low Density)
simulation model LMH6720 (SUBCKT)
pins: 1 OUT (out), 2 V- (power), 3 IN+ (in), 4 IN- (in), 5 ~{SD}, 6 V+ (power)

## LMH6722MA
designator U?
Quad Wideband Video Op Amp, 14-pin Narrow SOIC; PartNumber: LMH6722MA; Manufacturer: National Semiconductor; PackageTopMarking: NSUZXYTTE#*LMH67*22MA; PowerWise: Y; CompType: Amplifiers; Published: 4-Dec-2008; LatestRevisionDate: 13-Jan-2009; LatestRevisionNote: Sim Model Added.; DatasheetVersion: Oct-2008; PackageVersion: revJ, Jan-1996; PackageReference: M14A; Publisher: Altium Limited; PackageDescription: Molded Package S.O., .150in Wide, 14 Lead; Supplier 1: Farnell; Supplier Part Number 1: 8180890; RoHS: N; PinCount: 14; Code_JEDEC: MS-012AB; Code_IPC: SOIC127P600-14; ComponentLink1Description: LMH6722 Datasheet; ComponentLink1URL: http://www.national.com/ds/LM/LMH6722.pdf; ComponentLink2Description: LMH6722 Web Page; ComponentLink2URL: http://www.national.com/pf/LM/LMH6722.html; ComponentLink3Description: M14A Package Page; ComponentLink3URL: http://www.national.com/packaging/folders/m14a.html
footprint M14A_N (SOIC, 14-Leads, Body 8.6x3.9mm, Pitch 1.27mm, IPC Medium Density)
footprint M14A_L (SOIC, 14-Leads, Body 8.6x3.9mm, Pitch 1.27mm, IPC High Density)
footprint M14A_M (SOIC, 14-Leads, Body 8.6x3.9mm, Pitch 1.27mm, IPC Low Density)
simulation model LMH6722 (SUBCKT)
pins on every part: 4 V+ (power), 11 V- (power)
part A pins: 1 OUTA (out), 2 INA- (in), 3 INA+ (in)
part B pins: 5 INB+ (in), 6 INB- (in), 7 OUTB (out)
part C pins: 8 OUTC (out), 9 INC- (in), 10 INC+ (in)
part D pins: 12 IND+ (in), 13 IND- (in), 14 OUTD (out)

## LMH6722MA/NOPB
designator U?
Quad Wideband Video Op Amp, 14-pin Narrow SOIC, Pb-Free; PartNumber: LMH6722MA/NOPB; Manufacturer: National Semiconductor; PackageTopMarking: NSUZXYTTE#*LMH67*22MA; PowerWise: Y; CompType: Amplifiers; Published: 1-Mar-2010; DatasheetVersion: Oct-2008; PackageVersion: revJ, Jan-1996; PackageReference: M14A; Publisher: Altium Limited; PackageDescription: Molded Package S.O., .150in Wide, 14 Lead; Supplier 1: Digi-Key; Supplier Part Number 1: LMH6722MA-ND; Supplier 2: Farnell; Supplier Part Number 2: 1496044; RoHS: Y; PinCount: 14; Code_JEDEC: MS-012AB; Code_IPC: SOIC127P600-14; ComponentLink1Description: LMH6722 Datasheet; ComponentLink1URL: http://www.national.com/ds/LM/LMH6722.pdf; ComponentLink2Description: LMH6722 Web Page; ComponentLink2URL: http://www.national.com/pf/LM/LMH6722.html; ComponentLink3Description: M14A Package Page; ComponentLink3URL: http://www.national.com/packaging/folders/m14a.html
footprint M14A_N (SOIC, 14-Leads, Body 8.6x3.9mm, Pitch 1.27mm, IPC Medium Density)
footprint M14A_L (SOIC, 14-Leads, Body 8.6x3.9mm, Pitch 1.27mm, IPC High Density)
footprint M14A_M (SOIC, 14-Leads, Body 8.6x3.9mm, Pitch 1.27mm, IPC Low Density)
simulation model LMH6722 (SUBCKT)
pins on every part: 4 V+ (power), 11 V- (power)
part A pins: 1 OUTA (out), 2 INA- (in), 3 INA+ (in)
part B pins: 5 INB+ (in), 6 INB- (in), 7 OUTB (out)
part C pins: 8 OUTC (out), 9 INC- (in), 10 INC+ (in)
part D pins: 12 IND+ (in), 13 IND- (in), 14 OUTD (out)

## LMH6722MAX
designator U?
Quad Wideband Video Op Amp, 14-pin Narrow SOIC; PartNumber: LMH6722MAX; Manufacturer: National Semiconductor; PackageTopMarking: NSUZXYTTE#*LMH67*22MA; PowerWise: Y; CompType: Amplifiers; Published: 1-Mar-2010; DatasheetVersion: Oct-2008; PackageVersion: revJ, Jan-1996; PackageReference: M14A; Publisher: Altium Limited; PackageDescription: Molded Package S.O., .150in Wide, 14 Lead; RoHS: N; PinCount: 14; Code_JEDEC: MS-012AB; Code_IPC: SOIC127P600-14; ComponentLink1Description: LMH6722 Datasheet; ComponentLink1URL: http://www.national.com/ds/LM/LMH6722.pdf; ComponentLink2Description: LMH6722 Web Page; ComponentLink2URL: http://www.national.com/pf/LM/LMH6722.html; ComponentLink3Description: M14A Package Page; ComponentLink3URL: http://www.national.com/packaging/folders/m14a.html
footprint M14A_N (SOIC, 14-Leads, Body 8.6x3.9mm, Pitch 1.27mm, IPC Medium Density)
footprint M14A_L (SOIC, 14-Leads, Body 8.6x3.9mm, Pitch 1.27mm, IPC High Density)
footprint M14A_M (SOIC, 14-Leads, Body 8.6x3.9mm, Pitch 1.27mm, IPC Low Density)
simulation model LMH6722 (SUBCKT)
pins on every part: 4 V+ (power), 11 V- (power)
part A pins: 1 OUTA (out), 2 INA- (in), 3 INA+ (in)
part B pins: 5 INB+ (in), 6 INB- (in), 7 OUTB (out)
part C pins: 8 OUTC (out), 9 INC- (in), 10 INC+ (in)
part D pins: 12 IND+ (in), 13 IND- (in), 14 OUTD (out)

## LMH6722MT
designator U?
Quad Wideband Video Op Amp, 14-pin TSSOP; PartNumber: LMH6722MT; Manufacturer: National Semiconductor; PackageTopMarking: NSUZXYTT*LMH67*22MT; PowerWise: Y; CompType: Amplifiers; Published: 4-Dec-2008; LatestRevisionDate: 13-Jan-2009; LatestRevisionNote: Sim Model Added.; DatasheetVersion: Oct-2008; PackageVersion: revD, Jun-2003; PackageReference: MTC14; Publisher: Altium Limited; PackageDescription: Molded TSSOP, JEDEC, 5 x 4.4 x 0.9mm Body, 14 Lead, 0.65mm Pitch; Supplier 1: Farnell; Supplier Part Number 1: 1286952; RoHS: N; PinCount: 14; Code_JEDEC: MO-153-AB-1; ComponentLink1Description: LMH6722 Datasheet; ComponentLink1URL: http://www.national.com/ds/LM/LMH6722.pdf; ComponentLink2Description: LMH6722 Web Page; ComponentLink2URL: http://www.national.com/pf/LM/LMH6722.html; ComponentLink3Description: MTC14 Package Page; ComponentLink3URL: http://www.national.com/packaging/folders/mtc14.html
footprint MTC14_N (TSOP, 14-Leads, Body 5x4.4mm, Pitch 0.65mm, IPC Medium Density)
footprint MTC14_L (TSOP, 14-Leads, Body 5x4.4mm, Pitch 0.65mm, IPC High Density)
footprint MTC14_M (TSOP, 14-Leads, Body 5x4.4mm, Pitch 0.65mm, IPC Low Density)
simulation model LMH6722 (SUBCKT)
pins on every part: 4 V+ (power), 11 V- (power)
part A pins: 1 OUTA (out), 2 INA- (in), 3 INA+ (in)
part B pins: 5 INB+ (in), 6 INB- (in), 7 OUTB (out)
part C pins: 8 OUTC (out), 9 INC- (in), 10 INC+ (in)
part D pins: 12 IND+ (in), 13 IND- (in), 14 OUTD (out)

## LMH6722MTX
designator U?
Quad Wideband Video Op Amp, 14-pin TSSOP; PartNumber: LMH6722MTX; Manufacturer: National Semiconductor; PackageTopMarking: NSUZXYTT*LMH67*22MT; PowerWise: Y; CompType: Amplifiers; Published: 1-Mar-2010; DatasheetVersion: Oct-2008; PackageVersion: revD, Jun-2003; PackageReference: MTC14; Publisher: Altium Limited; PackageDescription: Molded TSSOP, JEDEC, 5 x 4.4 x 0.9mm Body, 14 Lead, 0.65mm Pitch; RoHS: N; PinCount: 14; Code_JEDEC: MO-153-AB-1; ComponentLink1Description: LMH6722 Datasheet; ComponentLink1URL: http://www.national.com/ds/LM/LMH6722.pdf; ComponentLink2Description: LMH6722 Web Page; ComponentLink2URL: http://www.national.com/pf/LM/LMH6722.html; ComponentLink3Description: MTC14 Package Page; ComponentLink3URL: http://www.national.com/packaging/folders/mtc14.html
footprint MTC14_N (TSOP, 14-Leads, Body 5x4.4mm, Pitch 0.65mm, IPC Medium Density)
footprint MTC14_L (TSOP, 14-Leads, Body 5x4.4mm, Pitch 0.65mm, IPC High Density)
footprint MTC14_M (TSOP, 14-Leads, Body 5x4.4mm, Pitch 0.65mm, IPC Low Density)
simulation model LMH6722 (SUBCKT)
pins on every part: 4 V+ (power), 11 V- (power)
part A pins: 1 OUTA (out), 2 INA- (in), 3 INA+ (in)
part B pins: 5 INB+ (in), 6 INB- (in), 7 OUTB (out)
part C pins: 8 OUTC (out), 9 INC- (in), 10 INC+ (in)
part D pins: 12 IND+ (in), 13 IND- (in), 14 OUTD (out)

## LMH6722QSD
designator U?
Quad Wideband Video Op Amp, 14-pin LLP; PartNumber: LMH6722QSD; Manufacturer: National Semiconductor; PackageTopMarking: ZXYTT*L6722Q; PowerWise: N; CompType: Amplifiers; Published: 4-Dec-2008; DatasheetVersion: Oct-2008; PackageVersion: revA, Jun-2003; PackageReference: SDA14A; Publisher: Altium Limited; PackageDescription: LLP, Plastic, Dual, 4 x 3 x 0.8mm Body, 14 Lead, 0.5mm Pitch, No Pullback; RoHS: Y; PinCount: 14; ComponentLink1Description: LMH6722Q Datasheet; ComponentLink1URL: http://www.national.com/ds/LM/LMH6722.pdf; ComponentLink2Description: LMH6722Q Web Page; ComponentLink2URL: http://www.national.com/pf/LM/LMH6722Q.html; ComponentLink3Description: SDA14A Package Page; ComponentLink3URL: http://www.national.com/packaging/folders/sda14a.html
footprint SDA14A (SON, 14-Leads, Body 4x3mm, Pitch 0.5mm, NSC Recommended)
pins on every part: 4 V+ (power), 11 V- (power)
part A pins: 1 OUTA (out), 2 INA- (in), 3 INA+ (in)
part B pins: 5 INB+ (in), 6 INB- (in), 7 OUTB (out)
part C pins: 8 OUTC (out), 9 INC- (in), 10 INC+ (in)
part D pins: 12 IND+ (in), 13 IND- (in), 14 OUTD (out)
part E pins: 15 DAP

## LMH6722QSD/NOPB
designator U?
Quad Wideband Video Op Amp, 14-pin LLP, Pb-Free; PartNumber: LMH6722QSD/NOPB; Manufacturer: National Semiconductor; PowerWise: Y; CompType: Amplifiers; Published: 1-Mar-2010; DatasheetVersion: Oct-2008; PackageVersion: revA, Jun-2003; PackageReference: SDA14A; Publisher: Altium Limited; PackageDescription: LLP, Plastic, Dual, 4 x 3 x 0.8mm Body, 14 Lead, 0.5mm Pitch, No Pullback; Supplier 1: Digi-Key; Supplier Part Number 1: LMH6722QSDTR-ND; Supplier 2: Digi-Key; Supplier Part Number 2: LMH6722QSDCT-ND; Supplier 3: Digi-Key; Supplier Part Number 3: LMH6722QSDDKR-ND; RoHS: Y; PinCount: 14; ComponentLink1Description: LMH6722 Datasheet; ComponentLink1URL: http://www.national.com/ds/LM/LMH6722.pdf; ComponentLink2Description: LMH6722 Web Page; ComponentLink2URL: http://www.national.com/pf/LM/LMH6722.html; ComponentLink3Description: SDA14A Package Page; ComponentLink3URL: http://www.national.com/packaging/folders/sda14a.html
footprint SDA14A (SON, 14-Leads, Body 4x3mm, Pitch 0.5mm, NSC Recommended)
simulation model LMH6722 (SUBCKT)
pins on every part: 4 V+ (power), 11 V- (power)
part A pins: 1 OUTA (out), 2 INA- (in), 3 INA+ (in)
part B pins: 5 INB+ (in), 6 INB- (in), 7 OUTB (out)
part C pins: 8 OUTC (out), 9 INC- (in), 10 INC+ (in)
part D pins: 12 IND+ (in), 13 IND- (in), 14 OUTD (out)
part E pins: 15 DAP

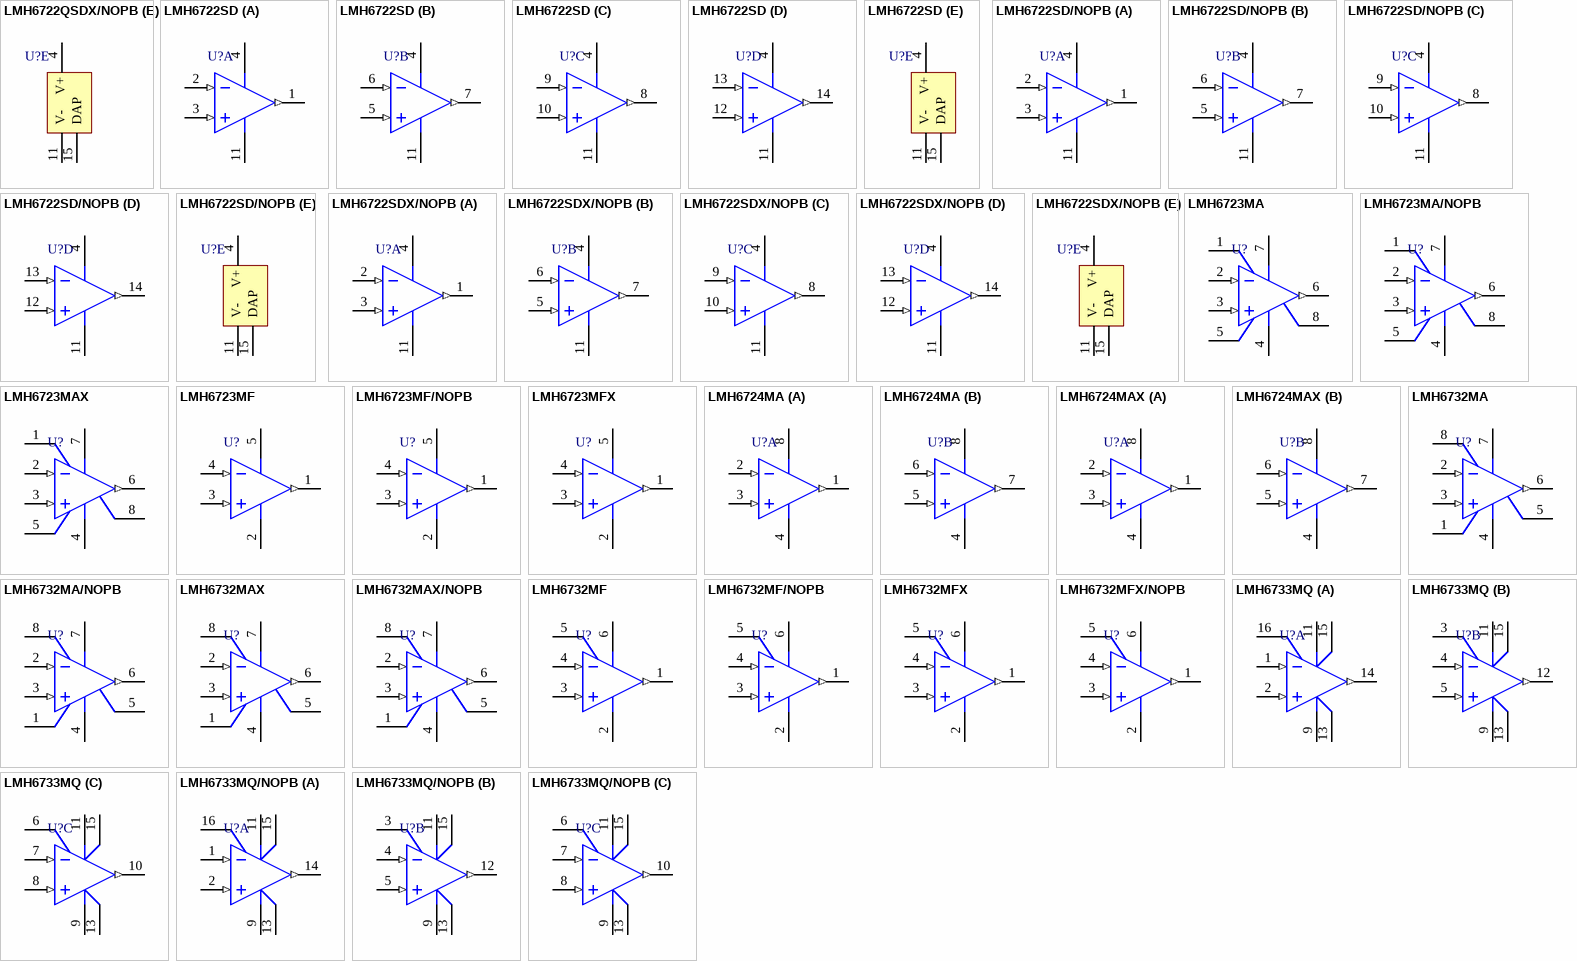
[diagram p52: symbols LMH6722QSDX/NOPB to LMH6733MQ/NOPB]

## LMH6722QSDX/NOPB
designator U?
Quad Wideband Video Op Amp, 14-pin LLP, Pb-Free; PartNumber: LMH6722QSDX/NOPB; Manufacturer: National Semiconductor; PowerWise: Y; CompType: Amplifiers; Published: 1-Mar-2010; DatasheetVersion: Oct-2008; PackageVersion: revA, Jun-2003; PackageReference: SDA14A; Publisher: Altium Limited; PackageDescription: LLP, Plastic, Dual, 4 x 3 x 0.8mm Body, 14 Lead, 0.5mm Pitch, No Pullback; Supplier 1: Digi-Key; Supplier Part Number 1: LMH6722QSDX-ND; RoHS: Y; PinCount: 14; ComponentLink1Description: LMH6722 Datasheet; ComponentLink1URL: http://www.national.com/ds/LM/LMH6722.pdf; ComponentLink2Description: LMH6722 Web Page; ComponentLink2URL: http://www.national.com/pf/LM/LMH6722.html; ComponentLink3Description: SDA14A Package Page; ComponentLink3URL: http://www.national.com/packaging/folders/sda14a.html
footprint SDA14A (SON, 14-Leads, Body 4x3mm, Pitch 0.5mm, NSC Recommended)
simulation model LMH6722 (SUBCKT)
pins on every part: 4 V+ (power), 11 V- (power)
part A pins: 1 OUTA (out), 2 INA- (in), 3 INA+ (in)
part B pins: 5 INB+ (in), 6 INB- (in), 7 OUTB (out)
part C pins: 8 OUTC (out), 9 INC- (in), 10 INC+ (in)
part D pins: 12 IND+ (in), 13 IND- (in), 14 OUTD (out)
part E pins: 15 DAP

## LMH6722SD
designator U?
Quad Wideband Video Op Amp, 14-pin LLP; PartNumber: LMH6722SD; Manufacturer: National Semiconductor; PackageTopMarking: ZXYTT*L6722; PowerWise: N; CompType: Amplifiers; Published: 4-Dec-2008; DatasheetVersion: Oct-2008; PackageVersion: revA, Jun-2003; PackageReference: SDA14A; Publisher: Altium Limited; PackageDescription: LLP, Plastic, Dual, 4 x 3 x 0.8mm Body, 14 Lead, 0.5mm Pitch, No Pullback; RoHS: Y; PinCount: 14; ComponentLink1Description: LMH6722 Datasheet; ComponentLink1URL: http://www.national.com/ds/LM/LMH6722.pdf; ComponentLink2Description: LMH6722 Web Page; ComponentLink2URL: http://www.national.com/pf/LM/LMH6722.html; ComponentLink3Description: SDA14A Package Page; ComponentLink3URL: http://www.national.com/packaging/folders/sda14a.html
footprint SDA14A (SON, 14-Leads, Body 4x3mm, Pitch 0.5mm, NSC Recommended)
pins on every part: 4 V+ (power), 11 V- (power)
part A pins: 1 OUTA (out), 2 INA- (in), 3 INA+ (in)
part B pins: 5 INB+ (in), 6 INB- (in), 7 OUTB (out)
part C pins: 8 OUTC (out), 9 INC- (in), 10 INC+ (in)
part D pins: 12 IND+ (in), 13 IND- (in), 14 OUTD (out)
part E pins: 15 DAP

## LMH6722SD/NOPB
designator U?
Quad Wideband Video Op Amp, 14-pin LLP, Pb-Free; PartNumber: LMH6722SD/NOPB; Manufacturer: National Semiconductor; PowerWise: Y; CompType: Amplifiers; Published: 1-Mar-2010; DatasheetVersion: Oct-2008; PackageVersion: revA, Jun-2003; PackageReference: SDA14A; Publisher: Altium Limited; PackageDescription: LLP, Plastic, Dual, 4 x 3 x 0.8mm Body, 14 Lead, 0.5mm Pitch, No Pullback; Supplier 1: Digi-Key; Supplier Part Number 1: LMH6722SDTR-ND; Supplier 2: Digi-Key; Supplier Part Number 2: LMH6722SDCT-ND; Supplier 3: Digi-Key; Supplier Part Number 3: LMH6722SDDKR-ND; RoHS: Y; PinCount: 14; ComponentLink1Description: LMH6722 Datasheet; ComponentLink1URL: http://www.national.com/ds/LM/LMH6722.pdf; ComponentLink2Description: LMH6722 Web Page; ComponentLink2URL: http://www.national.com/pf/LM/LMH6722.html; ComponentLink3Description: SDA14A Package Page; ComponentLink3URL: http://www.national.com/packaging/folders/sda14a.html
footprint SDA14A (SON, 14-Leads, Body 4x3mm, Pitch 0.5mm, NSC Recommended)
simulation model LMH6722 (SUBCKT)
pins on every part: 4 V+ (power), 11 V- (power)
part A pins: 1 OUTA (out), 2 INA- (in), 3 INA+ (in)
part B pins: 5 INB+ (in), 6 INB- (in), 7 OUTB (out)
part C pins: 8 OUTC (out), 9 INC- (in), 10 INC+ (in)
part D pins: 12 IND+ (in), 13 IND- (in), 14 OUTD (out)
part E pins: 15 DAP

## LMH6722SDX/NOPB
designator U?
Quad Wideband Video Op Amp, 14-pin LLP, Pb-Free; PartNumber: LMH6722SDX/NOPB; Manufacturer: National Semiconductor; PowerWise: Y; CompType: Amplifiers; Published: 1-Mar-2010; DatasheetVersion: Oct-2008; PackageVersion: revA, Jun-2003; PackageReference: SDA14A; Publisher: Altium Limited; PackageDescription: LLP, Plastic, Dual, 4 x 3 x 0.8mm Body, 14 Lead, 0.5mm Pitch, No Pullback; Supplier 1: Digi-Key; Supplier Part Number 1: LMH6722SDX-ND; RoHS: Y; PinCount: 14; ComponentLink1Description: LMH6722 Datasheet; ComponentLink1URL: http://www.national.com/ds/LM/LMH6722.pdf; ComponentLink2Description: LMH6722 Web Page; ComponentLink2URL: http://www.national.com/pf/LM/LMH6722.html; ComponentLink3Description: SDA14A Package Page; ComponentLink3URL: http://www.national.com/packaging/folders/sda14a.html
footprint SDA14A (SON, 14-Leads, Body 4x3mm, Pitch 0.5mm, NSC Recommended)
simulation model LMH6722 (SUBCKT)
pins on every part: 4 V+ (power), 11 V- (power)
part A pins: 1 OUTA (out), 2 INA- (in), 3 INA+ (in)
part B pins: 5 INB+ (in), 6 INB- (in), 7 OUTB (out)
part C pins: 8 OUTC (out), 9 INC- (in), 10 INC+ (in)
part D pins: 12 IND+ (in), 13 IND- (in), 14 OUTD (out)
part E pins: 15 DAP

## LMH6723MA
designator U?
Single/Quad 370 MHz 1 mA Current Feedback Op Amp, 8-pin Narrow SOIC; PartNumber: LMH6723MA; Manufacturer: National Semiconductor; PackageTopMarking: NSZXTT*LMH67*23MA; PowerWise: Y; CompType: Amplifiers; Published: 4-Dec-2008; LatestRevisionDate: 13-Jan-2009; LatestRevisionNote: Sim Model Added.; DatasheetVersion: Aug-2005; PackageVersion: revM, May-2009; PackageReference: M08A; Publisher: Altium Limited; PackageDescription: SOIC Narrow, 4.9 x 3.9 x 1.45mm, 8 Lead, 1.27mm Pitch; Supplier 1: Farnell; Supplier Part Number 1: 8180903; RoHS: N; PinCount: 8; Code_JEDEC: MS-012-AA; Code_IPC: SOIC127P600-8; ComponentLink1Description: LMH6723 Datasheet; ComponentLink1URL: http://www.national.com/ds/LM/LMH6723.pdf; ComponentLink2Description: LMH6723 Web Page; ComponentLink2URL: http://www.national.com/pf/LM/LMH6723.html; ComponentLink3Description: M08A Package Page; ComponentLink3URL: http://www.national.com/packaging/folders/m08a.html
footprint M08A_N (SOIC, 8-Leads, Body 4.9x3.9mm, Pitch 1.27mm, IPC Medium Density)
footprint M08A_L (SOIC, 8-Leads, Body 4.9x3.9mm, Pitch 1.27mm, IPC High Density)
footprint M08A_M (SOIC, 8-Leads, Body 4.9x3.9mm, Pitch 1.27mm, IPC Low Density)
simulation model LMH6723 (SUBCKT)
pins: 1 NC, 2 IN- (in), 3 IN+ (in), 4 V- (power), 5 NC, 6 OUT (out), 7 V+ (power), 8 NC

## LMH6723MA/NOPB
designator U?
Single/Quad 370 MHz 1 mA Current Feedback Op Amp, 8-pin Narrow SOIC, Pb-Free; PartNumber: LMH6723MA/NOPB; Manufacturer: National Semiconductor; PackageTopMarking: NSZXTT*LMH67*23MA; PowerWise: Y; CompType: Amplifiers; Published: 1-Mar-2010; DatasheetVersion: Aug-2005; PackageVersion: revM, May-2009; PackageReference: M08A; Publisher: Altium Limited; PackageDescription: SOIC Narrow, 4.9 x 3.9 x 1.45mm, 8 Lead, 1.27mm Pitch; Supplier 1: Digi-Key; Supplier Part Number 1: LMH6723MA-ND; Supplier 2: Farnell; Supplier Part Number 2: 1693965; RoHS: Y; PinCount: 8; Code_JEDEC: MS-012-AA; Code_IPC: SOIC127P600-8; ComponentLink1Description: LMH6723 Datasheet; ComponentLink1URL: http://www.national.com/ds/LM/LMH6723.pdf; ComponentLink2Description: LMH6723 Web Page; ComponentLink2URL: http://www.national.com/pf/LM/LMH6723.html; ComponentLink3Description: M08A Package Page; ComponentLink3URL: http://www.national.com/packaging/folders/m08a.html
footprint M08A_N (SOIC, 8-Leads, Body 4.9x3.9mm, Pitch 1.27mm, IPC Medium Density)
footprint M08A_L (SOIC, 8-Leads, Body 4.9x3.9mm, Pitch 1.27mm, IPC High Density)
footprint M08A_M (SOIC, 8-Leads, Body 4.9x3.9mm, Pitch 1.27mm, IPC Low Density)
simulation model LMH6723 (SUBCKT)
pins: 1 NC, 2 IN- (in), 3 IN+ (in), 4 V- (power), 5 NC, 6 OUT (out), 7 V+ (power), 8 NC

## LMH6723MAX
designator U?
Single/Quad 370 MHz 1 mA Current Feedback Op Amp, 8-pin Narrow SOIC; PartNumber: LMH6723MAX; Manufacturer: National Semiconductor; PackageTopMarking: NSZXTT*LMH67*23MA; PowerWise: Y; CompType: Amplifiers; Published: 1-Mar-2010; DatasheetVersion: Aug-2005; PackageVersion: revM, May-2009; PackageReference: M08A; Publisher: Altium Limited; PackageDescription: SOIC Narrow, 4.9 x 3.9 x 1.45mm, 8 Lead, 1.27mm Pitch; RoHS: N; PinCount: 8; Code_JEDEC: MS-012-AA; Code_IPC: SOIC127P600-8; ComponentLink1Description: LMH6723 Datasheet; ComponentLink1URL: http://www.national.com/ds/LM/LMH6723.pdf; ComponentLink2Description: LMH6723 Web Page; ComponentLink2URL: http://www.national.com/pf/LM/LMH6723.html; ComponentLink3Description: M08A Package Page; ComponentLink3URL: http://www.national.com/packaging/folders/m08a.html
footprint M08A_N (SOIC, 8-Leads, Body 4.9x3.9mm, Pitch 1.27mm, IPC Medium Density)
footprint M08A_L (SOIC, 8-Leads, Body 4.9x3.9mm, Pitch 1.27mm, IPC High Density)
footprint M08A_M (SOIC, 8-Leads, Body 4.9x3.9mm, Pitch 1.27mm, IPC Low Density)
simulation model LMH6723 (SUBCKT)
pins: 1 NC, 2 IN- (in), 3 IN+ (in), 4 V- (power), 5 NC, 6 OUT (out), 7 V+ (power), 8 NC

## LMH6723MF
designator U?
Single/Quad 370 MHz 1 mA Current Feedback Op Amp, 5-pin SOT-23; PartNumber: LMH6723MF; Manufacturer: National Semiconductor; PackageTopMarking: AB1A*XTT; PowerWise: Y; CompType: Amplifiers; Published: 4-Dec-2008; LatestRevisionDate: 13-Jan-2009; LatestRevisionNote: Sim Model Added.; DatasheetVersion: Aug-2005; PackageVersion: revD, Aug-2008; PackageReference: MF05A; Publisher: Altium Limited; PackageDescription: Molded SOT-23, .115 x .063 x .040 in Body, 5 Lead, .0375 in Pitch; Supplier 1: Farnell; Supplier Part Number 1: 8180911; RoHS: N; PinCount: 5; ComponentLink1Description: LMH6723 Datasheet; ComponentLink1URL: http://www.national.com/ds/LM/LMH6723.pdf; ComponentLink2Description: LMH6723 Web Page; ComponentLink2URL: http://www.national.com/pf/LM/LMH6723.html; ComponentLink3Description: MF05A Package Page; ComponentLink3URL: http://www.national.com/packaging/folders/mf05a.html
footprint MF05A_N (SOT23, 5-Leads, Body 2.9x1.6mm, Pitch 0.95mm, Lead Span 2.8mm, IPC Medium Density)
footprint MF05A_L (SOT23, 5-Leads, Body 2.9x1.6mm, Pitch 0.95mm, Lead Span 2.8mm, IPC High Density)
footprint MF05A_M (SOT23, 5-Leads, Body 2.9x1.6mm, Pitch 0.95mm, Lead Span 2.8mm, IPC Low Density)
simulation model LMH6723 (SUBCKT)
pins: 1 OUT (out), 2 V- (power), 3 IN+ (in), 4 IN- (in), 5 V+ (power)